# Altium footprint library PcbLib1.PcbLib: 27 footprints (part 2 of 2)
Each footprint in its own frame and in the unit in brackets; x right, y up, seen from the top. Pads: shape width x height; smd on the part's side, far side on the other; paste and mask are expansions set on the pad; w line width, h text height; cw(c..) or ccw(c..) is an arc to the next point about the centre after c.
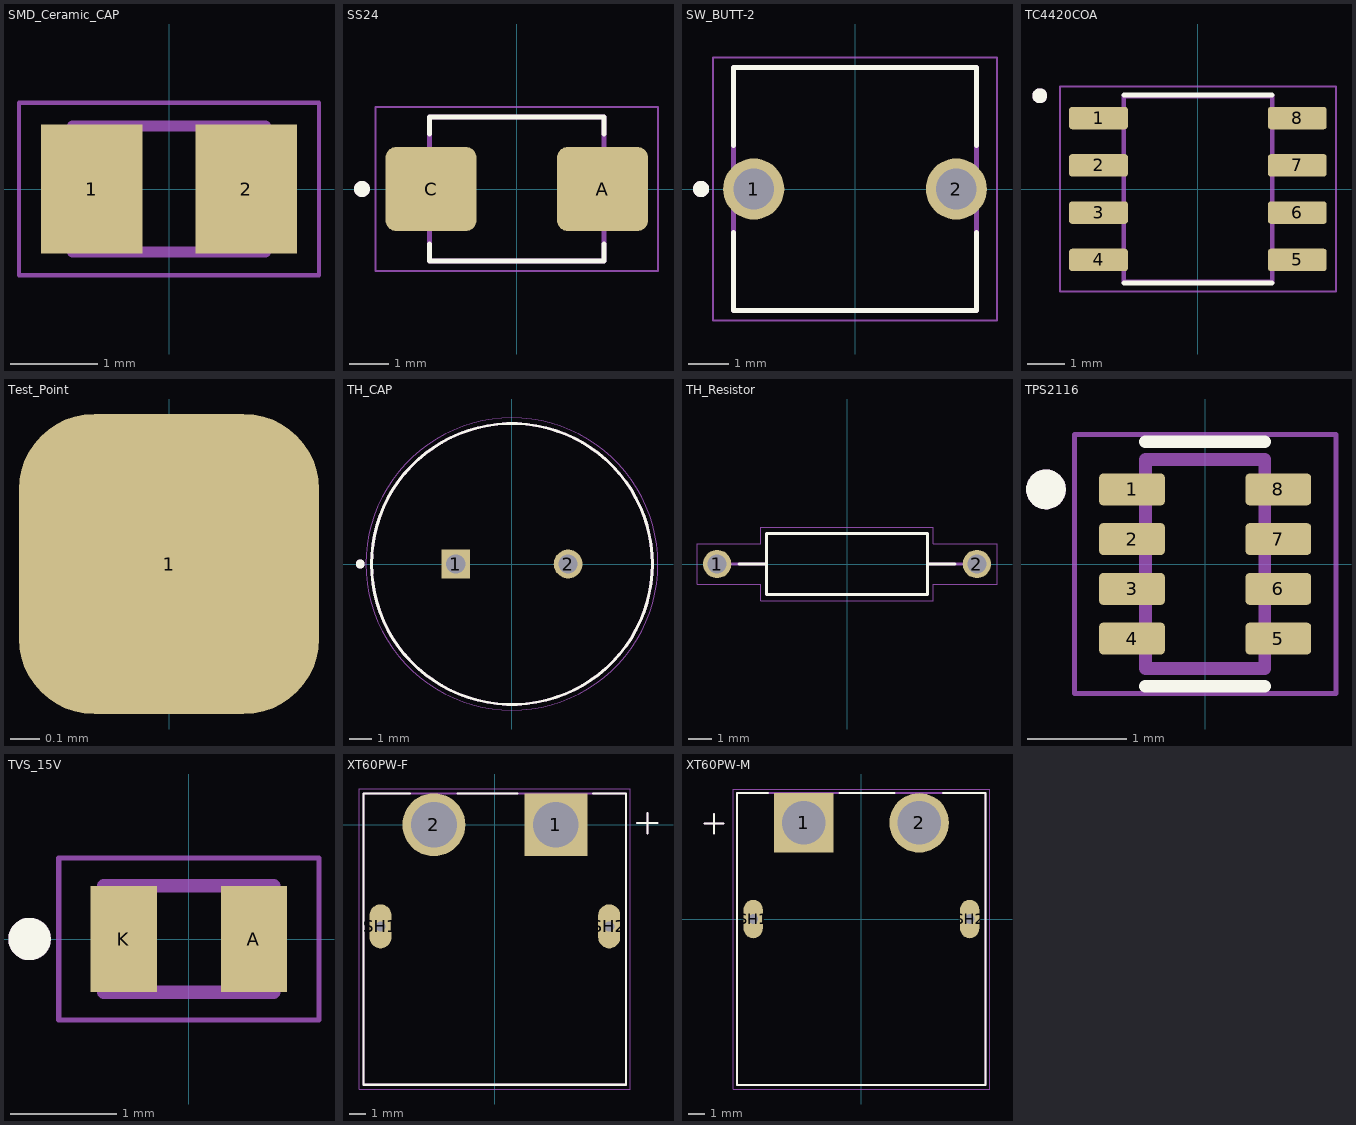
[diagram p1: the footprints below, top view; thin cyan lines are the x and y axes]

## SMD_Ceramic_CAP [mm]
pads (2):
  rect 1.16x1.47 smd: 1(-0.88,0) 2(0.88,0)
Mechanical 13:
  lines w0.127: -1.1,-0.72 1.1,-0.72 1.1,0.72 -1.1,0.72 -1.1,-0.72
Mechanical 15:
  lines w0.05: -1.713,-0.983 1.713,-0.983 1.713,0.983 -1.713,0.983 -1.713,-0.983
3D body "step_temp.STEP": height 0.94, standoff 0, extent -1.005,-0.625 1.005,0.625

## SS24 [mm]
height 2.65
pads (2):
  rrect25% 2.29x2.12 smd: A(2.16,0) C(-2.16,0)
Top Overlay:
  circle w0.2: c-3.9,0 r0.1
  lines w0.127: -2.2,-1.38 -2.2,-1.813 2.2,-1.813 2.2,-1.38 ; -2.2,1.38 -2.2,1.813 2.2,1.813 2.2,1.38
Mechanical 13:
  circle w0.2: c-3.9,0 r0.1
  lines w0.127: -2.2,-1.813 -2.2,1.813 2.2,1.813 2.2,-1.813 -2.2,-1.813
Mechanical 15:
  lines w0.05: -3.555,-2.063 -3.555,2.063 3.555,2.063 3.555,-2.063 -3.555,-2.063
3D body "step_temp.STEP": height 2.65, standoff 0, extent -2.67,-1.813 2.67,1.813

## SW_BUTT-2 [mm]
height 9.5
pads (2):
  round 1.508 hole 1 mask+0.102: 1(-2.5,0) 2(2.5,0)
Top Overlay:
  circle w0.2: c-3.8,0 r0.1
  lines w0.127: -3,-1.075 -3,-3 3,-3 3,-1.075 ; -3,1.075 -3,3 3,3 3,1.075
Mechanical 13:
  circle w0.2: c-3.8,0 r0.1
  lines w0.127: -3,-3 3,-3 3,3 -3,3 -3,-3
Mechanical 15:
  lines w0.05: -3.504,-3.25 -3.504,3.25 3.504,3.25 3.504,-3.25 -3.504,-3.25
3D body "step_temp.STEP": height 5.1, standoff -4, extent -3,-3 3,3

## TC4420COA [mm]
pads (8):
  rrect25% 1.58x0.6 smd: 1(-2.67,1.905) 2(-2.67,0.635) 3(-2.67,-0.635) 4(-2.67,-1.905) 5(2.67,-1.905) 6(2.67,-0.635) 7(2.67,0.635) 8(2.67,1.905)
Top Overlay:
  circle w0.2: c-4.25,2.505 r0.1
  lines w0.127: -1.995,-2.525 1.995,-2.525 ; -1.995,2.525 1.995,2.525
Mechanical 13:
  circle w0.2: c-4.25,2.505 r0.1
  lines w0.127: -1.995,-2.5 -1.995,2.5 1.995,2.5 1.995,-2.5 -1.995,-2.5
Mechanical 15:
  lines w0.05: -3.71,-2.75 -3.71,2.75 3.71,2.75 3.71,-2.75 -3.71,-2.75
3D body "step_temp.STEP": height 1.75, standoff 0, extent -3,-2.45 3,2.45

## Test_Point [mil]
pads (1):
  rrect50% 40x40 smd: 1(0,35)

## TH_CAP [mm]
height 27
pads (2):
  rect 1.28x1.28 / inner round 1.28 / far side rect 1.28x1.28 hole 0.85: 1(-2.5,0)
  round 1.28 hole 0.85: 2(2.5,0)
Top Overlay:
  circle w0.127: c0,0 r6.25
  circle w0.2: c-6.75,0 r0.1
Mechanical 13:
  circle w0.127: c0,0 r6.25
  circle w0.2: c-6.75,0 r0.1
Mechanical 15:
  circle w0.05: c0,0 r6.5
3D body "step_temp.STEP": height 25, standoff -19, extent -6.096,-6.246 6.384,6.246

## TH_Resistor [mm]
height 2.6
pads (2):
  round 1.2 hole 0.8: 1(-5.5,0) 2(5.5,0)
Top Overlay:
  lines w0.127: -4.58,0 -3.4,0 ; 4.58,0 3.4,0 ; -3.4,0 -3.4,-1.3 3.4,-1.3 3.4,0 ; -3.4,0 -3.4,1.3 3.4,1.3 3.4,0
Mechanical 13:
  lines w0.127: -4.9,0 -3.4,0 ; 4.9,0 3.4,0 ; -3.4,0 -3.4,-1.3 3.4,-1.3 3.4,0 ; -3.4,0 -3.4,1.3 3.4,1.3 3.4,0
Mechanical 15:
  lines w0.05: -6.35,-0.85 -6.35,0.85 -3.65,0.85 -3.65,1.55 3.65,1.55 3.65,0.85 6.35,0.85 6.35,-0.85 3.65,-0.85 3.65,-1.55 -3.65,-1.55 -3.65,-0.85 -6.35,-0.85
3D body "step_temp.STEP": height 2.4, standoff -26.95, extent -5.775,-1.2 5.775,1.2

## TPS2116 [mm]
height 0.6
pads (8):
  rrect25% 0.66x0.32 smd: 1(-0.735,0.75) 2(-0.735,0.25) 3(-0.735,-0.25) 4(-0.735,-0.75) 5(0.735,-0.75) 6(0.735,-0.25) 7(0.735,0.25) 8(0.735,0.75)
Top Overlay:
  circle w0.2: c-1.6,0.75 r0.1
  lines w0.127: -0.6,-1.23 0.6,-1.23 ; -0.6,1.23 0.6,1.23
Mechanical 13:
  circle w0.2: c-1.6,0.75 r0.1
  lines w0.127: -0.6,-1.05 0.6,-1.05 0.6,1.05 -0.6,1.05 -0.6,-1.05
Mechanical 15:
  lines w0.05: -1.315,-1.3 1.315,-1.3 1.315,1.3 -1.315,1.3 -1.315,-1.3
3D body "step_temp.STEP": height 0.6, standoff 0, extent -0.8,-1.05 0.8,1.05

## TVS_15V [mm]
height 0.55
pads (2):
  rect 0.625x1 smd paste-1: A(0.613,0) K(-0.613,0)
Top Overlay:
  circle w0.2: c-1.5,0 r0.1
Top Paste:
  region: 0.975,-0.513 0.275,-0.513 0.275,0.513 0.975,0.513
  region: -0.275,-0.513 -0.975,-0.513 -0.975,0.513 -0.275,0.513
Mechanical 13:
  circle w0.2: c-1.5,0 r0.1
  lines w0.127: -0.8,-0.5 -0.8,0.5 0.8,0.5 0.8,-0.5 -0.8,-0.5
Mechanical 15:
  lines w0.05: -1.225,-0.763 -1.225,0.763 1.225,0.763 1.225,-0.763 -1.225,-0.763
3D body "step_temp.STEP": height 0.55, standoff 0, extent -0.8,-0.5 0.8,0.5

## XT60PW-F [mm]
height 8.4
pads (4):
  rect 3.716x3.716 / inner round 3.716 / far side rect 3.716x3.716 hole 2.7 mask+0.102: 1(3.6,0)
  round 3.716 hole 2.7 mask+0.102: 2(-3.6,0)
  oval 1.3x2.6 hole 0.6 square mask+0.102: SH1(-6.75,-6) SH2(6.75,-6)
Top Overlay:
  lines w0.127: -5.01,1.85 -7.75,1.85 -7.75,-15.35 7.75,-15.35 7.75,1.85 5.81,1.85 ; -2.19,1.85 1.34,1.85 ; 8.4,0.1 9.6,0.1 ; 9,-0.5 9,0.7
Mechanical 13:
  lines w0.127: 8.4,0.1 9.6,0.1 ; 9,-0.5 9,0.7 ; -7.75,-15.35 7.75,-15.35 7.75,1.85 -7.75,1.85 -7.75,-15.35
Mechanical 15:
  lines w0.05: -8,-15.6 8,-15.6 8,2.11 -8,2.11 -8,-15.6
3D body "step_temp.STEP": height 8.4, standoff -2.55, extent -7.75,-15.35 7.75,1.85

## XT60PW-M [mm]
height 8.4
pads (4):
  rect 3.716x3.716 / inner round 3.716 / far side rect 3.716x3.716 hole 2.7 mask+0.102: 1(-3.6,6)
  round 3.716 hole 2.7 mask+0.102: 2(3.6,6)
  oval 1.2x2.4 hole 0.6 square mask+0.102: SH1(-6.75,0) SH2(6.75,0)
Top Overlay:
  lines w0.127: -9.8,5.95 -8.6,5.95 ; -9.2,5.35 -9.2,6.55 ; -5.828,7.85 -7.75,7.85 -7.75,-10.35 7.75,-10.35 7.75,7.85 5.078,7.85 ; -1.372,7.85 2.072,7.85
Mechanical 13:
  lines w0.127: -9.8,5.95 -8.6,5.95 ; -9.2,5.35 -9.2,6.55 ; -7.75,-10.35 -7.75,7.85 7.75,7.85 7.75,-10.35 -7.75,-10.35
Mechanical 15:
  lines w0.05: -8,-10.6 -8,8.11 8,8.11 8,-10.6 -8,-10.6
3D body "step_temp.STEP": height 8.4, standoff -2.55, extent -7.75,-10.35 7.75,7.85